# Altium integrated library TI Interface Serializer Deserializer.IntLib: 46 symbols (part 3 of 4)
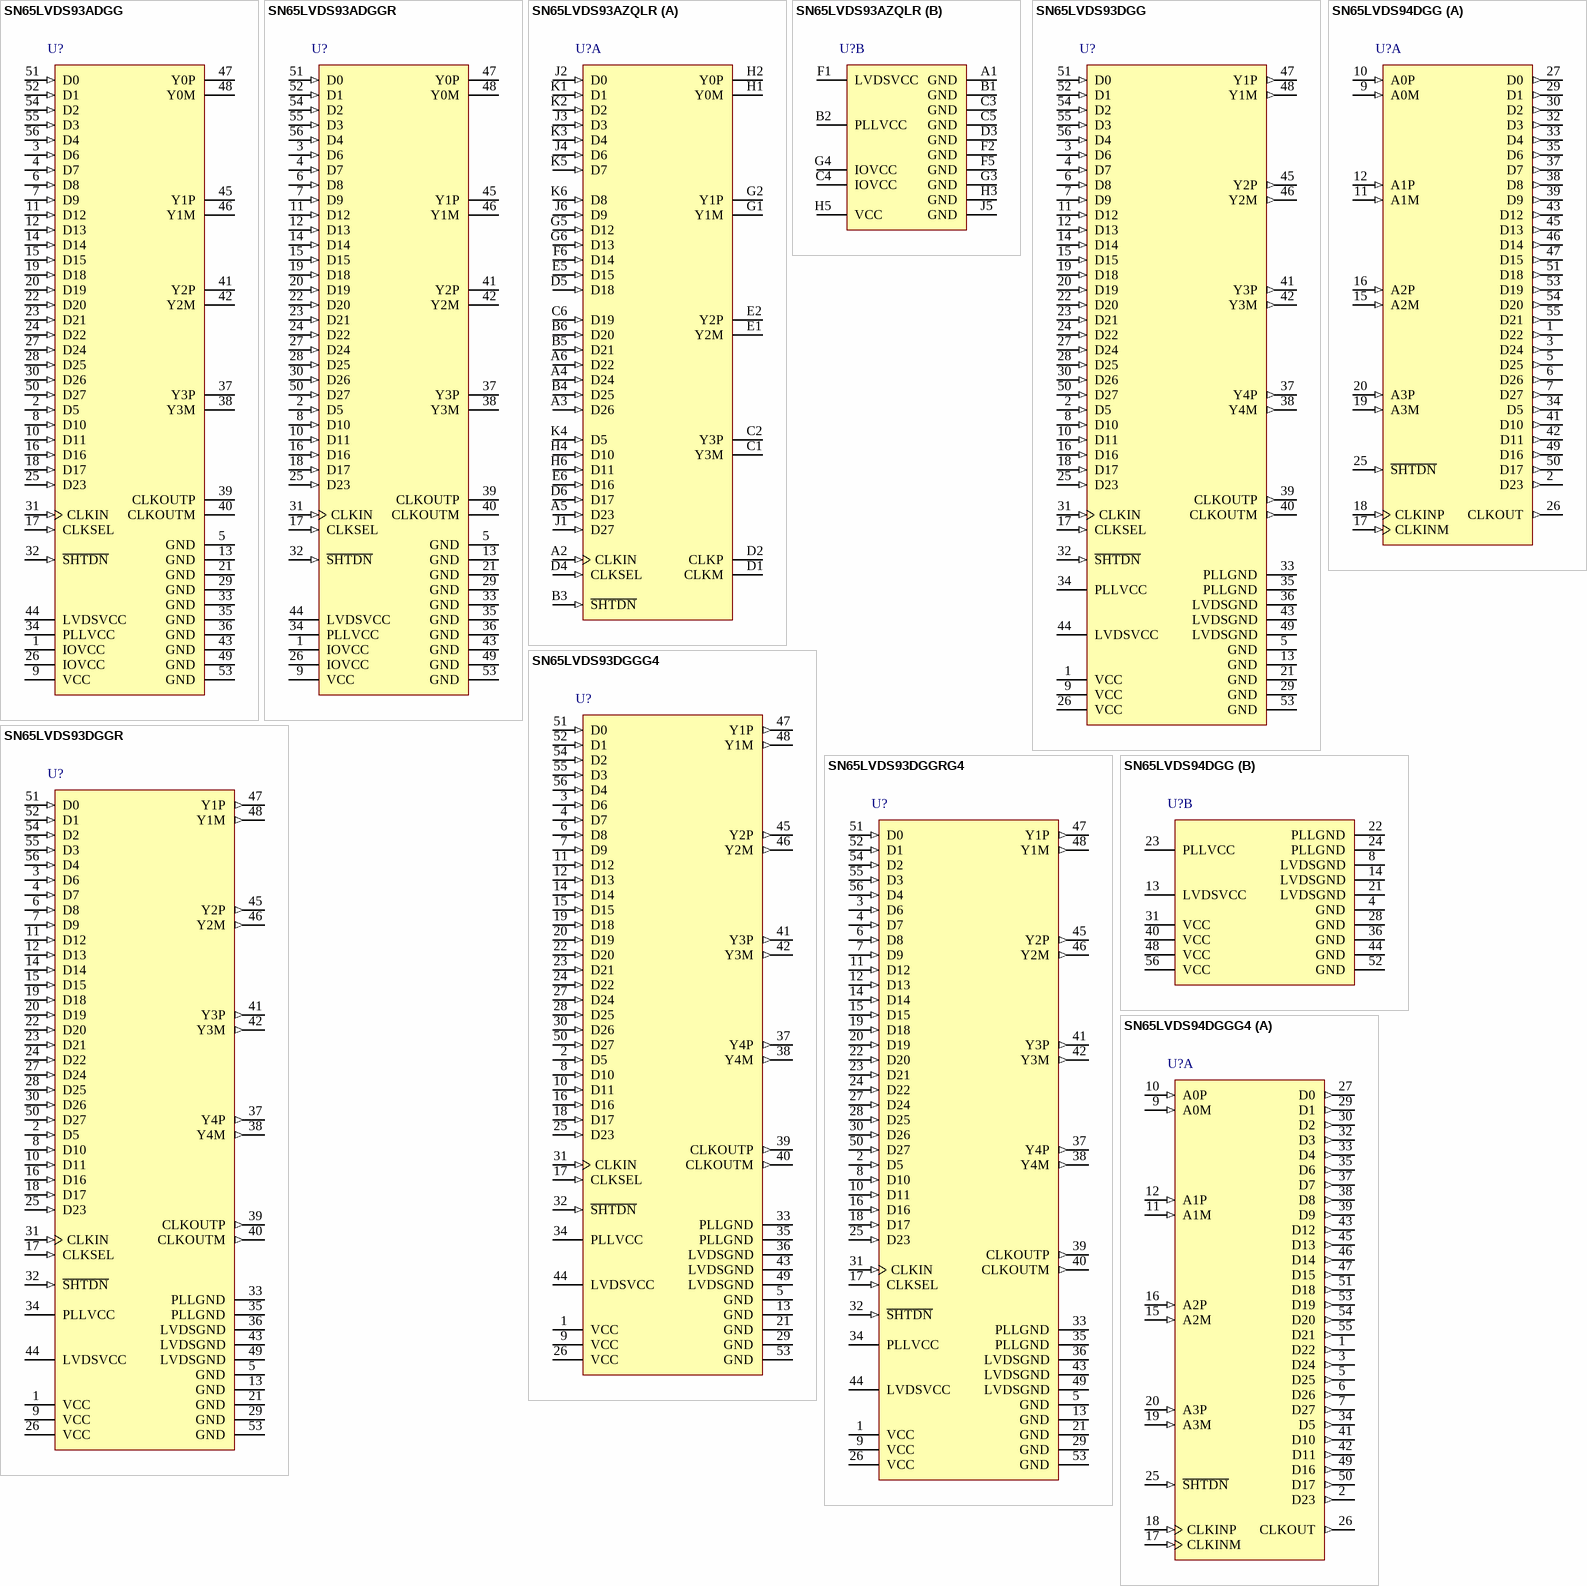
[diagram p6: symbols SN65LVDS93ADGG to SN65LVDS94DGGG4]

## SN65LVDS93DGGR
designator U?
Serdes (Serializer / Deserializer) Transmitter, 3.3 V, 227.5 MB/s Data Throughput, -40 to +85 degC, 56-pin TSSOP (DGG), Green (RoHS & no Sb/Br); Manufacturer: Texas Instruments; PartNumber: SN65LVDS93DGGR; Data Throughput(MB/s): 227.5; Driver (RL)(Ohms): 100; Driver tpd(ns): 14.2; ICC(mA): 120; Number of Parallel Inputs: 28; PLL Frequency(MHz): 20 - 65; SerDes: TRUE; Serial Data Transmitter Channels: 4; SubFamily: LVDS Serdes (<100 MHz); Supply Voltage(s)(V): 3.3; Type of Line Circuit: LVDS; DatasheetVersion: SLLS302G; PackageVersion: revF, Dec-1997; PackageReference: DGG56; PackageDescription: 56-Pin Plastic Small Outline 0.5 mm Pitch; Eco-Plan: Green (RoHS & no Sb/Br); Mounting Technology: Surface Mount; Code_JEDEC: MO-153; ComponentLink1Description: Datasheet; ComponentLink1URL: http://www.ti.com/general/docs/lit/getliterature.tsp?genericPartNumber=SN65LVDS93&fileType=pdf; ComponentLink2Description: URL Link1; ComponentLink2URL: SamplesURL:http://www.ti.com/product/sn65lvds93#samples
footprint DGG56_N (TSSOP, 56-Leads, Body 14x6.1mm, Pitch 0.5mm, IPC Medium Density)
footprint DGG56_L (TSSOP, 56-Leads, Body 14x6.1mm, Pitch 0.5mm, IPC High Density)
footprint DGG56_M (TSSOP, 56-Leads, Body 14x6.1mm, Pitch 0.5mm, IPC Low Density)
pins: 1 VCC (power), 2 D5 (in), 3 D6 (in), 4 D7 (in), 5 GND (power), 6 D8 (in), 7 D9 (in), 8 D10 (in), 9 VCC (power), 10 D11 (in), 11 D12 (in), 12 D13 (in), 13 GND (power), 14 D14 (in), 15 D15 (in), 16 D16 (in), 17 CLKSEL (in), 18 D17 (in), 19 D18 (in), 20 D19 (in), 21 GND (power), 22 D20 (in), 23 D21 (in), 24 D22 (in), 25 D23 (in), 26 VCC (power), 27 D24 (in), 28 D25 (in), 29 GND (power), 30 D26 (in), 31 CLKIN (in), 32 ~{SHTDN} (in), 33 PLLGND (power), 34 PLLVCC (power), 35 PLLGND (power), 36 LVDSGND (power), 37 Y4P (out), 38 Y4M (out), 39 CLKOUTP (out), 40 CLKOUTM (out), 41 Y3P (out), 42 Y3M (out), 43 LVDSGND (power), 44 LVDSVCC (power), 45 Y2P (out), 46 Y2M (out), 47 Y1P (out), 48 Y1M (out), 49 LVDSGND (power), 50 D27 (in), 51 D0 (in), 52 D1 (in), 53 GND (power), 54 D2 (in), 55 D3 (in), 56 D4 (in)

## SN65LVDS93DGGRG4
designator U?
Serdes (Serializer / Deserializer) Transmitter, 3.3 V, 227.5 MB/s Data Throughput, -40 to +85 degC, 56-pin TSSOP (DGG), Green (RoHS & no Sb/Br); Manufacturer: Texas Instruments; PartNumber: SN65LVDS93DGGRG4; Data Throughput(MB/s): 227.5; Driver (RL)(Ohms): 100; Driver tpd(ns): 14.2; ICC(mA): 120; Number of Parallel Inputs: 28; PLL Frequency(MHz): 20 - 65; SerDes: TRUE; Serial Data Transmitter Channels: 4; SubFamily: LVDS Serdes (<100 MHz); Supply Voltage(s)(V): 3.3; Type of Line Circuit: LVDS; DatasheetVersion: SLLS302G; PackageVersion: revF, Dec-1997; PackageReference: DGG56; PackageDescription: 56-Pin Plastic Small Outline 0.5 mm Pitch; Eco-Plan: Green (RoHS & no Sb/Br); Mounting Technology: Surface Mount; Code_JEDEC: MO-153; ComponentLink1Description: Datasheet; ComponentLink1URL: http://www.ti.com/general/docs/lit/getliterature.tsp?genericPartNumber=SN65LVDS93&fileType=pdf; ComponentLink2Description: URL Link1; ComponentLink2URL: SamplesURL:http://www.ti.com/product/sn65lvds93#samples
footprint DGG56_N (TSSOP, 56-Leads, Body 14x6.1mm, Pitch 0.5mm, IPC Medium Density)
footprint DGG56_L (TSSOP, 56-Leads, Body 14x6.1mm, Pitch 0.5mm, IPC High Density)
footprint DGG56_M (TSSOP, 56-Leads, Body 14x6.1mm, Pitch 0.5mm, IPC Low Density)
pins: 1 VCC (power), 2 D5 (in), 3 D6 (in), 4 D7 (in), 5 GND (power), 6 D8 (in), 7 D9 (in), 8 D10 (in), 9 VCC (power), 10 D11 (in), 11 D12 (in), 12 D13 (in), 13 GND (power), 14 D14 (in), 15 D15 (in), 16 D16 (in), 17 CLKSEL (in), 18 D17 (in), 19 D18 (in), 20 D19 (in), 21 GND (power), 22 D20 (in), 23 D21 (in), 24 D22 (in), 25 D23 (in), 26 VCC (power), 27 D24 (in), 28 D25 (in), 29 GND (power), 30 D26 (in), 31 CLKIN (in), 32 ~{SHTDN} (in), 33 PLLGND (power), 34 PLLVCC (power), 35 PLLGND (power), 36 LVDSGND (power), 37 Y4P (out), 38 Y4M (out), 39 CLKOUTP (out), 40 CLKOUTM (out), 41 Y3P (out), 42 Y3M (out), 43 LVDSGND (power), 44 LVDSVCC (power), 45 Y2P (out), 46 Y2M (out), 47 Y1P (out), 48 Y1M (out), 49 LVDSGND (power), 50 D27 (in), 51 D0 (in), 52 D1 (in), 53 GND (power), 54 D2 (in), 55 D3 (in), 56 D4 (in)

## SN65LVDS94DGG
designator U?
Serdes (Serializer / Deserializer) Receiver, 3.3 V, 227.5 MB/s Data Throughput, 4 Receiver Channels, 56-pin TSSOP (DGG), Green (RoHS & no Sb/Br); Manufacturer: Texas Instruments; PartNumber: SN65LVDS94DGG; Data Throughput(MB/s): 227.5; ICC(mA): 74; Number of Parallel Outputs: 28; PLL Frequency(MHz): 20 - 65; Receiver (Vth)(mV): +/-100; Receiver tpd(ns): 8.7; SerDes: TRUE; Serial Data Receiver Channels: 4; SubFamily: LVDS Serdes (<100 MHz); Supply Voltage(s)(V): 3.3; Type of Line Circuit: LVDS; DatasheetVersion: SLLS298F; PackageVersion: revF, Dec-1997; PackageReference: DGG56; PackageDescription: 56-Pin Plastic Small Outline 0.5 mm Pitch; Eco-Plan: Green (RoHS & no Sb/Br); Mounting Technology: Surface Mount; Code_JEDEC: MO-153; ComponentLink1Description: Datasheet; ComponentLink1URL: http://www.ti.com/general/docs/lit/getliterature.tsp?genericPartNumber=SN65LVDS94&fileType=pdf; ComponentLink2Description: URL Link1; ComponentLink2URL: SamplesURL:http://www.ti.com/product/sn65lvds94#samples
footprint DGG56_N (TSSOP, 56-Leads, Body 14x6.1mm, Pitch 0.5mm, IPC Medium Density)
footprint DGG56_L (TSSOP, 56-Leads, Body 14x6.1mm, Pitch 0.5mm, IPC High Density)
footprint DGG56_M (TSSOP, 56-Leads, Body 14x6.1mm, Pitch 0.5mm, IPC Low Density)
part A pins: 1 D22 (out), 2 D23 (out), 3 D24 (out), 5 D25 (out), 6 D26 (out), 7 D27 (out), 9 A0M (in), 10 A0P (in), 11 A1M (in), 12 A1P (in), 15 A2M (in), 16 A2P (in), 17 CLKINM (in), 18 CLKINP (in), 19 A3M (in), 20 A3P (in), 25 ~{SHTDN} (in), 26 CLKOUT (out), 27 D0 (out), 29 D1 (out), 30 D2 (out), 32 D3 (out), 33 D4 (out), 34 D5 (out), 35 D6 (out), 37 D7 (out), 38 D8 (out), 39 D9 (out), 41 D10 (out), 42 D11 (out), 43 D12 (out), 45 D13 (out), 46 D14 (out), 47 D15 (out), 49 D16 (out), 50 D17 (out), 51 D18 (out), 53 D19 (out), 54 D20 (out), 55 D21 (out)
part B pins: 4 GND (power), 8 LVDSGND (power), 13 LVDSVCC (power), 14 LVDSGND (power), 21 LVDSGND (power), 22 PLLGND (power), 23 PLLVCC (power), 24 PLLGND (power), 28 GND (power), 31 VCC (power), 36 GND (power), 40 VCC (power), 44 GND (power), 48 VCC (power), 52 GND (power), 56 VCC (power)

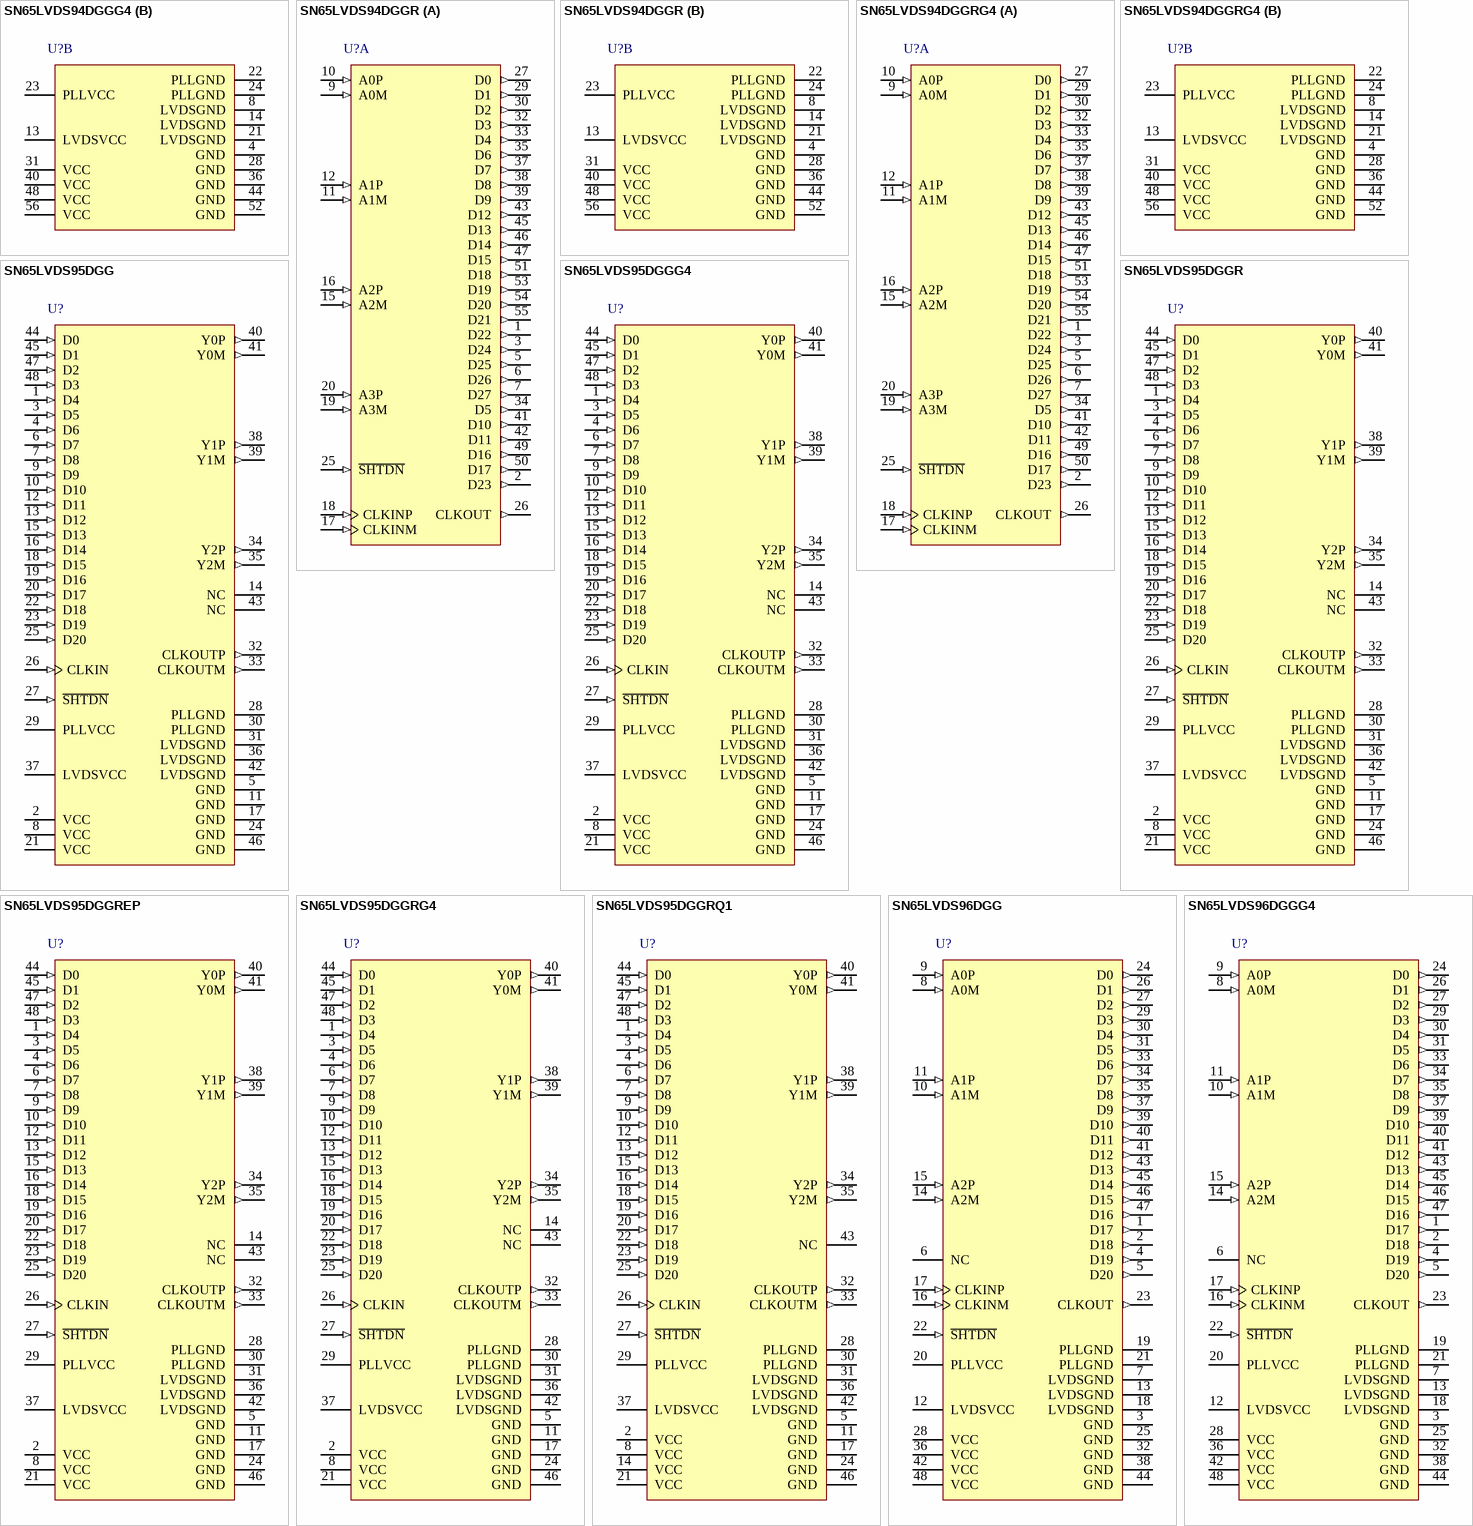
[diagram p2: symbols SN65LVDS94DGGG4 to SN65LVDS96DGGG4]

## SN65LVDS94DGGG4
designator U?
Serdes (Serializer / Deserializer) Receiver, 3.3 V, 227.5 MB/s Data Throughput, 4 Receiver Channels, 56-pin TSSOP (DGG), Green (RoHS & no Sb/Br); Manufacturer: Texas Instruments; PartNumber: SN65LVDS94DGGG4; Data Throughput(MB/s): 227.5; ICC(mA): 74; Number of Parallel Outputs: 28; PLL Frequency(MHz): 20 - 65; Receiver (Vth)(mV): +/-100; Receiver tpd(ns): 8.7; SerDes: TRUE; Serial Data Receiver Channels: 4; SubFamily: LVDS Serdes (<100 MHz); Supply Voltage(s)(V): 3.3; Type of Line Circuit: LVDS; DatasheetVersion: SLLS298F; PackageVersion: revF, Dec-1997; PackageReference: DGG56; PackageDescription: 56-Pin Plastic Small Outline 0.5 mm Pitch; Eco-Plan: Green (RoHS & no Sb/Br); Mounting Technology: Surface Mount; Code_JEDEC: MO-153; ComponentLink1Description: Datasheet; ComponentLink1URL: http://www.ti.com/general/docs/lit/getliterature.tsp?genericPartNumber=SN65LVDS94&fileType=pdf; ComponentLink2Description: URL Link1; ComponentLink2URL: SamplesURL:http://www.ti.com/product/sn65lvds94#samples
footprint DGG56_N (TSSOP, 56-Leads, Body 14x6.1mm, Pitch 0.5mm, IPC Medium Density)
footprint DGG56_L (TSSOP, 56-Leads, Body 14x6.1mm, Pitch 0.5mm, IPC High Density)
footprint DGG56_M (TSSOP, 56-Leads, Body 14x6.1mm, Pitch 0.5mm, IPC Low Density)
part A pins: 1 D22 (out), 2 D23 (out), 3 D24 (out), 5 D25 (out), 6 D26 (out), 7 D27 (out), 9 A0M (in), 10 A0P (in), 11 A1M (in), 12 A1P (in), 15 A2M (in), 16 A2P (in), 17 CLKINM (in), 18 CLKINP (in), 19 A3M (in), 20 A3P (in), 25 ~{SHTDN} (in), 26 CLKOUT (out), 27 D0 (out), 29 D1 (out), 30 D2 (out), 32 D3 (out), 33 D4 (out), 34 D5 (out), 35 D6 (out), 37 D7 (out), 38 D8 (out), 39 D9 (out), 41 D10 (out), 42 D11 (out), 43 D12 (out), 45 D13 (out), 46 D14 (out), 47 D15 (out), 49 D16 (out), 50 D17 (out), 51 D18 (out), 53 D19 (out), 54 D20 (out), 55 D21 (out)
part B pins: 4 GND (power), 8 LVDSGND (power), 13 LVDSVCC (power), 14 LVDSGND (power), 21 LVDSGND (power), 22 PLLGND (power), 23 PLLVCC (power), 24 PLLGND (power), 28 GND (power), 31 VCC (power), 36 GND (power), 40 VCC (power), 44 GND (power), 48 VCC (power), 52 GND (power), 56 VCC (power)

## SN65LVDS94DGGR
designator U?
Serdes (Serializer / Deserializer) Receiver, 3.3 V, 227.5 MB/s Data Throughput, 4 Receiver Channels, -40 to +85 degC, 56-pin TSSOP (DGG), Green (RoHS & no Sb/Br); Manufacturer: Texas Instruments; PartNumber: SN65LVDS94DGGR; Data Throughput(MB/s): 227.5; ICC(mA): 74; Number of Parallel Outputs: 28; PLL Frequency(MHz): 20 - 65; Receiver (Vth)(mV): +/-100; Receiver tpd(ns): 8.7; SerDes: TRUE; Serial Data Receiver Channels: 4; SubFamily: LVDS Serdes (<100 MHz); Supply Voltage(s)(V): 3.3; Type of Line Circuit: LVDS; DatasheetVersion: SLLS298F; PackageVersion: revF, Dec-1997; PackageReference: DGG56; PackageDescription: 56-Pin Plastic Small Outline 0.5 mm Pitch; Eco-Plan: Green (RoHS & no Sb/Br); Mounting Technology: Surface Mount; Code_JEDEC: MO-153; ComponentLink1Description: Datasheet; ComponentLink1URL: http://www.ti.com/general/docs/lit/getliterature.tsp?genericPartNumber=SN65LVDS94&fileType=pdf; ComponentLink2Description: URL Link1; ComponentLink2URL: SamplesURL:http://www.ti.com/product/sn65lvds94#samples
footprint DGG56_N (TSSOP, 56-Leads, Body 14x6.1mm, Pitch 0.5mm, IPC Medium Density)
footprint DGG56_L (TSSOP, 56-Leads, Body 14x6.1mm, Pitch 0.5mm, IPC High Density)
footprint DGG56_M (TSSOP, 56-Leads, Body 14x6.1mm, Pitch 0.5mm, IPC Low Density)
part A pins: 1 D22 (out), 2 D23 (out), 3 D24 (out), 5 D25 (out), 6 D26 (out), 7 D27 (out), 9 A0M (in), 10 A0P (in), 11 A1M (in), 12 A1P (in), 15 A2M (in), 16 A2P (in), 17 CLKINM (in), 18 CLKINP (in), 19 A3M (in), 20 A3P (in), 25 ~{SHTDN} (in), 26 CLKOUT (out), 27 D0 (out), 29 D1 (out), 30 D2 (out), 32 D3 (out), 33 D4 (out), 34 D5 (out), 35 D6 (out), 37 D7 (out), 38 D8 (out), 39 D9 (out), 41 D10 (out), 42 D11 (out), 43 D12 (out), 45 D13 (out), 46 D14 (out), 47 D15 (out), 49 D16 (out), 50 D17 (out), 51 D18 (out), 53 D19 (out), 54 D20 (out), 55 D21 (out)
part B pins: 4 GND (power), 8 LVDSGND (power), 13 LVDSVCC (power), 14 LVDSGND (power), 21 LVDSGND (power), 22 PLLGND (power), 23 PLLVCC (power), 24 PLLGND (power), 28 GND (power), 31 VCC (power), 36 GND (power), 40 VCC (power), 44 GND (power), 48 VCC (power), 52 GND (power), 56 VCC (power)

## SN65LVDS94DGGRG4
designator U?
Serdes (Serializer / Deserializer) Receiver, 3.3 V, 227.5 MB/s Data Throughput, 4 Receiver Channels, -40 to +85 degC, 56-pin TSSOP (DGG), Green (RoHS & no Sb/Br); Manufacturer: Texas Instruments; PartNumber: SN65LVDS94DGGRG4; Data Throughput(MB/s): 227.5; ICC(mA): 74; Number of Parallel Outputs: 28; PLL Frequency(MHz): 20 - 65; Receiver (Vth)(mV): +/-100; Receiver tpd(ns): 8.7; SerDes: TRUE; Serial Data Receiver Channels: 4; SubFamily: LVDS Serdes (<100 MHz); Supply Voltage(s)(V): 3.3; Type of Line Circuit: LVDS; DatasheetVersion: SLLS298F; PackageVersion: revF, Dec-1997; PackageReference: DGG56; PackageDescription: 56-Pin Plastic Small Outline 0.5 mm Pitch; Eco-Plan: Green (RoHS & no Sb/Br); Mounting Technology: Surface Mount; Code_JEDEC: MO-153; ComponentLink1Description: Datasheet; ComponentLink1URL: http://www.ti.com/general/docs/lit/getliterature.tsp?genericPartNumber=SN65LVDS94&fileType=pdf; ComponentLink2Description: URL Link1; ComponentLink2URL: SamplesURL:http://www.ti.com/product/sn65lvds94#samples
footprint DGG56_N (TSSOP, 56-Leads, Body 14x6.1mm, Pitch 0.5mm, IPC Medium Density)
footprint DGG56_L (TSSOP, 56-Leads, Body 14x6.1mm, Pitch 0.5mm, IPC High Density)
footprint DGG56_M (TSSOP, 56-Leads, Body 14x6.1mm, Pitch 0.5mm, IPC Low Density)
part A pins: 1 D22 (out), 2 D23 (out), 3 D24 (out), 5 D25 (out), 6 D26 (out), 7 D27 (out), 9 A0M (in), 10 A0P (in), 11 A1M (in), 12 A1P (in), 15 A2M (in), 16 A2P (in), 17 CLKINM (in), 18 CLKINP (in), 19 A3M (in), 20 A3P (in), 25 ~{SHTDN} (in), 26 CLKOUT (out), 27 D0 (out), 29 D1 (out), 30 D2 (out), 32 D3 (out), 33 D4 (out), 34 D5 (out), 35 D6 (out), 37 D7 (out), 38 D8 (out), 39 D9 (out), 41 D10 (out), 42 D11 (out), 43 D12 (out), 45 D13 (out), 46 D14 (out), 47 D15 (out), 49 D16 (out), 50 D17 (out), 51 D18 (out), 53 D19 (out), 54 D20 (out), 55 D21 (out)
part B pins: 4 GND (power), 8 LVDSGND (power), 13 LVDSVCC (power), 14 LVDSGND (power), 21 LVDSGND (power), 22 PLLGND (power), 23 PLLVCC (power), 24 PLLGND (power), 28 GND (power), 31 VCC (power), 36 GND (power), 40 VCC (power), 44 GND (power), 48 VCC (power), 52 GND (power), 56 VCC (power)

## SN65LVDS95DGG
designator U?
Serdes (Serializer / Deserializer) Transmitter, 3.3 V, 170.625 MB/s Data Throughput, -40 to +85 degC, 48-pin TSSOP (DGG), Green (RoHS & no Sb/Br); Manufacturer: Texas Instruments; PartNumber: SN65LVDS95DGG; Driver (RL)(Ohms): 90; Driver tpd(ns): 14.2; ICC(mA): 110; Number of Parallel Inputs: 21; PLL Frequency(MHz): 20 - 68; SerDes: TRUE; Serial Data Transmitter Channels: 3; SubFamily: LVDS Serdes (<100 MHz); Supply Voltage(s)(V): 3.3; Type of Line Circuit: LVDS; DatasheetVersion: SLLS297J; PackageVersion: revF, Dec-1997; PackageReference: DGG48; PackageDescription: 48-Pin Plastic Thin Shrink Small Outline Package 0.5 mm Pitch; Data Throughput(MB/s): 170.625; Eco-Plan: Green (RoHS & no Sb/Br); Mounting Technology: Surface Mount; Code_JEDEC: MO-153; ComponentLink1Description: Datasheet; ComponentLink1URL: http://www.ti.com/general/docs/lit/getliterature.tsp?genericPartNumber=SN65LVDS95&fileType=pdf; ComponentLink2Description: URL Link1; ComponentLink2URL: SamplesURL:http://www.ti.com/product/sn65lvds95#samples
footprint DGG48_N (TSSOP, 48-Leads, Body 12.5x6.1mm, Pitch 0.5mm, IPC Medium Density)
footprint DGG48_L (TSSOP, 48-Leads, Body 12.5x6.1mm, Pitch 0.5mm, IPC High Density)
footprint DGG48_M (TSSOP, 48-Leads, Body 12.5x6.1mm, Pitch 0.5mm, IPC Low Density)
pins: 1 D4 (in), 2 VCC (power), 3 D5 (in), 4 D6 (in), 5 GND (power), 6 D7 (in), 7 D8 (in), 8 VCC (power), 9 D9 (in), 10 D10 (in), 11 GND (power), 12 D11 (in), 13 D12 (in), 14 NC, 15 D13 (in), 16 D14 (in), 17 GND (power), 18 D15 (in), 19 D16 (in), 20 D17 (in), 21 VCC (power), 22 D18 (in), 23 D19 (in), 24 GND (power), 25 D20 (in), 26 CLKIN (in), 27 ~{SHTDN} (in), 28 PLLGND (power), 29 PLLVCC (power), 30 PLLGND (power), 31 LVDSGND (power), 32 CLKOUTP (out), 33 CLKOUTM (out), 34 Y2P (out), 35 Y2M (out), 36 LVDSGND (power), 37 LVDSVCC (power), 38 Y1P (out), 39 Y1M (out), 40 Y0P (out), 41 Y0M (out), 42 LVDSGND (power), 43 NC, 44 D0 (in), 45 D1 (in), 46 GND (power), 47 D2 (in), 48 D3 (in)

## SN65LVDS95DGGG4
designator U?
Serdes (Serializer / Deserializer) Transmitter, 3.3 V, 170.625 MB/s Data Throughput, -40 to +85 degC, 48-pin TSSOP (DGG), Green (RoHS & no Sb/Br); Manufacturer: Texas Instruments; PartNumber: SN65LVDS95DGGG4; Driver (RL)(Ohms): 90; Driver tpd(ns): 14.2; ICC(mA): 110; Number of Parallel Inputs: 21; PLL Frequency(MHz): 20 - 68; SerDes: TRUE; Serial Data Transmitter Channels: 3; SubFamily: LVDS Serdes (<100 MHz); Supply Voltage(s)(V): 3.3; Type of Line Circuit: LVDS; DatasheetVersion: SLLS297J; PackageVersion: revF, Dec-1997; PackageReference: DGG48; PackageDescription: 48-Pin Plastic Thin Shrink Small Outline Package 0.5 mm Pitch; Data Throughput(MB/s): 170.625; Eco-Plan: Green (RoHS & no Sb/Br); Mounting Technology: Surface Mount; Code_JEDEC: MO-153; ComponentLink1Description: Datasheet; ComponentLink1URL: http://www.ti.com/general/docs/lit/getliterature.tsp?genericPartNumber=SN65LVDS95&fileType=pdf; ComponentLink2Description: URL Link1; ComponentLink2URL: SamplesURL:http://www.ti.com/product/sn65lvds95#samples
footprint DGG48_N (TSSOP, 48-Leads, Body 12.5x6.1mm, Pitch 0.5mm, IPC Medium Density)
footprint DGG48_L (TSSOP, 48-Leads, Body 12.5x6.1mm, Pitch 0.5mm, IPC High Density)
footprint DGG48_M (TSSOP, 48-Leads, Body 12.5x6.1mm, Pitch 0.5mm, IPC Low Density)
pins: 1 D4 (in), 2 VCC (power), 3 D5 (in), 4 D6 (in), 5 GND (power), 6 D7 (in), 7 D8 (in), 8 VCC (power), 9 D9 (in), 10 D10 (in), 11 GND (power), 12 D11 (in), 13 D12 (in), 14 NC, 15 D13 (in), 16 D14 (in), 17 GND (power), 18 D15 (in), 19 D16 (in), 20 D17 (in), 21 VCC (power), 22 D18 (in), 23 D19 (in), 24 GND (power), 25 D20 (in), 26 CLKIN (in), 27 ~{SHTDN} (in), 28 PLLGND (power), 29 PLLVCC (power), 30 PLLGND (power), 31 LVDSGND (power), 32 CLKOUTP (out), 33 CLKOUTM (out), 34 Y2P (out), 35 Y2M (out), 36 LVDSGND (power), 37 LVDSVCC (power), 38 Y1P (out), 39 Y1M (out), 40 Y0P (out), 41 Y0M (out), 42 LVDSGND (power), 43 NC, 44 D0 (in), 45 D1 (in), 46 GND (power), 47 D2 (in), 48 D3 (in)

## SN65LVDS95DGGR
designator U?
Serdes (Serializer / Deserializer) Transmitter, 3.3 V, 170.625 MB/s Data Throughput, -40 to +85 degC, 48-pin TSSOP (DGG), Green (RoHS & no Sb/Br); Manufacturer: Texas Instruments; PartNumber: SN65LVDS95DGGR; Driver (RL)(Ohms): 90; Driver tpd(ns): 14.2; ICC(mA): 110; Number of Parallel Inputs: 21; PLL Frequency(MHz): 20 - 68; SerDes: TRUE; Serial Data Transmitter Channels: 3; SubFamily: LVDS Serdes (<100 MHz); Supply Voltage(s)(V): 3.3; Type of Line Circuit: LVDS; DatasheetVersion: SLLS297J; PackageVersion: revF, Dec-1997; PackageReference: DGG48; PackageDescription: 48-Pin Plastic Thin Shrink Small Outline Package 0.5 mm Pitch; Data Throughput(MB/s): 170.625; Eco-Plan: Green (RoHS & no Sb/Br); Mounting Technology: Surface Mount; Code_JEDEC: MO-153; ComponentLink1Description: Datasheet; ComponentLink1URL: http://www.ti.com/general/docs/lit/getliterature.tsp?genericPartNumber=SN65LVDS95&fileType=pdf; ComponentLink2Description: URL Link1; ComponentLink2URL: SamplesURL:http://www.ti.com/product/sn65lvds95#samples
footprint DGG48_N (TSSOP, 48-Leads, Body 12.5x6.1mm, Pitch 0.5mm, IPC Medium Density)
footprint DGG48_L (TSSOP, 48-Leads, Body 12.5x6.1mm, Pitch 0.5mm, IPC High Density)
footprint DGG48_M (TSSOP, 48-Leads, Body 12.5x6.1mm, Pitch 0.5mm, IPC Low Density)
pins: 1 D4 (in), 2 VCC (power), 3 D5 (in), 4 D6 (in), 5 GND (power), 6 D7 (in), 7 D8 (in), 8 VCC (power), 9 D9 (in), 10 D10 (in), 11 GND (power), 12 D11 (in), 13 D12 (in), 14 NC, 15 D13 (in), 16 D14 (in), 17 GND (power), 18 D15 (in), 19 D16 (in), 20 D17 (in), 21 VCC (power), 22 D18 (in), 23 D19 (in), 24 GND (power), 25 D20 (in), 26 CLKIN (in), 27 ~{SHTDN} (in), 28 PLLGND (power), 29 PLLVCC (power), 30 PLLGND (power), 31 LVDSGND (power), 32 CLKOUTP (out), 33 CLKOUTM (out), 34 Y2P (out), 35 Y2M (out), 36 LVDSGND (power), 37 LVDSVCC (power), 38 Y1P (out), 39 Y1M (out), 40 Y0P (out), 41 Y0M (out), 42 LVDSGND (power), 43 NC, 44 D0 (in), 45 D1 (in), 46 GND (power), 47 D2 (in), 48 D3 (in)

## SN65LVDS95DGGREP
designator U?
170.625 Mbps Enhanced Product LVDS Serdes Transmitter, 3.3 V, 3 Transmitter Channels, -40 to +85 degC, 48-pin TSSOP (DGG), Green (RoHS & no Sb/Br); Manufacturer: Texas Instruments; PartNumber: SN65LVDS95DGGREP; ICC(mA): 110; Number of Parallel Inputs: 21; PLL Frequency(MHz): 20 - 68; SerDes: TRUE; Serial Data Transmitter Channels: 3; SubFamily: LVDS Serdes (<100 MHz); Supply Voltage(s)(V): 3.3; DatasheetVersion: SGLS206A; PackageVersion: revF, Dec-1997; PackageReference: DGG48; PackageDescription: 48-Pin Plastic Thin Shrink Small Outline Package 0.5 mm Pitch; Data Throughput(MB/s): 170.625; Eco-Plan: Green (RoHS & no Sb/Br); Type of Line Circuit: LVDS; Mounting Technology: Surface Mount; Code_JEDEC: MO-153; ComponentLink1Description: Datasheet; ComponentLink1URL: http://www.ti.com/general/docs/lit/getliterature.tsp?genericPartNumber=SN65LVDS95-EP&fileType=pdf; ComponentLink2Description: URL Link1; ComponentLink2URL: SamplesURL:http://www.ti.com/product/sn65lvds95-ep#samples
footprint DGG48_N (TSSOP, 48-Leads, Body 12.5x6.1mm, Pitch 0.5mm, IPC Medium Density)
footprint DGG48_L (TSSOP, 48-Leads, Body 12.5x6.1mm, Pitch 0.5mm, IPC High Density)
footprint DGG48_M (TSSOP, 48-Leads, Body 12.5x6.1mm, Pitch 0.5mm, IPC Low Density)
pins: 1 D4 (in), 2 VCC (power), 3 D5 (in), 4 D6 (in), 5 GND (power), 6 D7 (in), 7 D8 (in), 8 VCC (power), 9 D9 (in), 10 D10 (in), 11 GND (power), 12 D11 (in), 13 D12 (in), 14 NC, 15 D13 (in), 16 D14 (in), 17 GND (power), 18 D15 (in), 19 D16 (in), 20 D17 (in), 21 VCC (power), 22 D18 (in), 23 D19 (in), 24 GND (power), 25 D20 (in), 26 CLKIN (in), 27 ~{SHTDN} (in), 28 PLLGND (power), 29 PLLVCC (power), 30 PLLGND (power), 31 LVDSGND (power), 32 CLKOUTP (out), 33 CLKOUTM (out), 34 Y2P (out), 35 Y2M (out), 36 LVDSGND (power), 37 LVDSVCC (power), 38 Y1P (out), 39 Y1M (out), 40 Y0P (out), 41 Y0M (out), 42 LVDSGND (power), 43 NC, 44 D0 (in), 45 D1 (in), 46 GND (power), 47 D2 (in), 48 D3 (in)

## SN65LVDS95DGGRG4
designator U?
Serdes (Serializer / Deserializer) Transmitter, 3.3 V, 170.625 MB/s Data Throughput, -40 to +85 degC, 48-pin TSSOP (DGG), Green (RoHS & no Sb/Br); Manufacturer: Texas Instruments; PartNumber: SN65LVDS95DGGRG4; Driver (RL)(Ohms): 90; Driver tpd(ns): 14.2; ICC(mA): 110; Number of Parallel Inputs: 21; PLL Frequency(MHz): 20 - 68; SerDes: TRUE; Serial Data Transmitter Channels: 3; SubFamily: LVDS Serdes (<100 MHz); Supply Voltage(s)(V): 3.3; Type of Line Circuit: LVDS; DatasheetVersion: SLLS297J; PackageVersion: revF, Dec-1997; PackageReference: DGG48; PackageDescription: 48-Pin Plastic Thin Shrink Small Outline Package 0.5 mm Pitch; Data Throughput(MB/s): 170.625; Eco-Plan: Green (RoHS & no Sb/Br); Mounting Technology: Surface Mount; Code_JEDEC: MO-153; ComponentLink1Description: Datasheet; ComponentLink1URL: http://www.ti.com/general/docs/lit/getliterature.tsp?genericPartNumber=SN65LVDS95&fileType=pdf; ComponentLink2Description: URL Link1; ComponentLink2URL: SamplesURL:http://www.ti.com/product/sn65lvds95#samples
footprint DGG48_N (TSSOP, 48-Leads, Body 12.5x6.1mm, Pitch 0.5mm, IPC Medium Density)
footprint DGG48_L (TSSOP, 48-Leads, Body 12.5x6.1mm, Pitch 0.5mm, IPC High Density)
footprint DGG48_M (TSSOP, 48-Leads, Body 12.5x6.1mm, Pitch 0.5mm, IPC Low Density)
pins: 1 D4 (in), 2 VCC (power), 3 D5 (in), 4 D6 (in), 5 GND (power), 6 D7 (in), 7 D8 (in), 8 VCC (power), 9 D9 (in), 10 D10 (in), 11 GND (power), 12 D11 (in), 13 D12 (in), 14 NC, 15 D13 (in), 16 D14 (in), 17 GND (power), 18 D15 (in), 19 D16 (in), 20 D17 (in), 21 VCC (power), 22 D18 (in), 23 D19 (in), 24 GND (power), 25 D20 (in), 26 CLKIN (in), 27 ~{SHTDN} (in), 28 PLLGND (power), 29 PLLVCC (power), 30 PLLGND (power), 31 LVDSGND (power), 32 CLKOUTP (out), 33 CLKOUTM (out), 34 Y2P (out), 35 Y2M (out), 36 LVDSGND (power), 37 LVDSVCC (power), 38 Y1P (out), 39 Y1M (out), 40 Y0P (out), 41 Y0M (out), 42 LVDSGND (power), 43 NC, 44 D0 (in), 45 D1 (in), 46 GND (power), 47 D2 (in), 48 D3 (in)

## SN65LVDS95DGGRQ1
designator U?
Automotive Catalog LVDS SERDES Transmitter, 3.3 V, 170.625 MB/s Data Throughput, -40 to +85 degC, 48-pin TSSOP (DGG), Green (RoHS & no Sb/Br); Manufacturer: Texas Instruments; PartNumber: SN65LVDS95DGGRQ1; ICC(mA): 110; Number of Parallel Inputs: 21; PLL Frequency(MHz): 20 - 68; SerDes: TRUE; Serial Data Transmitter Channels: 3; SubFamily: LVDS Serdes (<100 MHz); Supply Voltage(s)(V): 3.3; DatasheetVersion: SGLS207A; PackageVersion: revF, Dec-1997; PackageReference: DGG48; PackageDescription: 48-Pin Plastic Thin Shrink Small Outline Package 0.5 mm Pitch; Data Throughput(MB/s): 170.625; Eco-Plan: Green (RoHS & no Sb/Br); Type of Line Circuit: LVDS; Mounting Technology: Surface Mount; Code_JEDEC: MO-153; ComponentLink1Description: Datasheet; ComponentLink1URL: http://www.ti.com/general/docs/lit/getliterature.tsp?genericPartNumber=SN65LVDS95-Q1&fileType=pdf; ComponentLink2Description: URL Link1; ComponentLink2URL: SamplesURL:http://www.ti.com/product/sn65lvds95-q1#samples
footprint DGG48_N (TSSOP, 48-Leads, Body 12.5x6.1mm, Pitch 0.5mm, IPC Medium Density)
footprint DGG48_L (TSSOP, 48-Leads, Body 12.5x6.1mm, Pitch 0.5mm, IPC High Density)
footprint DGG48_M (TSSOP, 48-Leads, Body 12.5x6.1mm, Pitch 0.5mm, IPC Low Density)
pins: 1 D4 (in), 2 VCC (power), 3 D5 (in), 4 D6 (in), 5 GND (power), 6 D7 (in), 7 D8 (in), 8 VCC (power), 9 D9 (in), 10 D10 (in), 11 GND (power), 12 D11 (in), 13 D12 (in), 14 VCC (power), 15 D13 (in), 16 D14 (in), 17 GND (power), 18 D15 (in), 19 D16 (in), 20 D17 (in), 21 VCC (power), 22 D18 (in), 23 D19 (in), 24 GND (power), 25 D20 (in), 26 CLKIN (in), 27 ~{SHTDN} (in), 28 PLLGND (power), 29 PLLVCC (power), 30 PLLGND (power), 31 LVDSGND (power), 32 CLKOUTP (out), 33 CLKOUTM (out), 34 Y2P (out), 35 Y2M (out), 36 LVDSGND (power), 37 LVDSVCC (power), 38 Y1P (out), 39 Y1M (out), 40 Y0P (out), 41 Y0M (out), 42 LVDSGND (power), 43 NC, 44 D0 (in), 45 D1 (in), 46 GND (power), 47 D2 (in), 48 D3 (in)

## SN65LVDS96DGG
designator U?
Serdes (Serializer / Deserializer) Receiver, 3.3 V, 170.625 MB/s Data Throughput, 3 Receiver Channels, 48-pin TSSOP (DGG), Green (RoHS & no Sb/Br); Manufacturer: Texas Instruments; PartNumber: SN65LVDS96DGG; ICC(mA): 94; Number of Parallel Outputs: 21; PLL Frequency(MHz): 20 - 68; Receiver (Vth)(mV): +/-100; Receiver tpd(ns): 8.7; SerDes: TRUE; Serial Data Receiver Channels: 3; SubFamily: LVDS Serdes (<100 MHz); Supply Voltage(s)(V): 3.3; Type of Line Circuit: LVDS; DatasheetVersion: SLLS296H; PackageVersion: revF, Dec-1997; PackageReference: DGG48; PackageDescription: 48-Pin Plastic Thin Shrink Small Outline Package 0.5 mm Pitch; Data Throughput(MB/s): 170.625; Eco-Plan: Green (RoHS & no Sb/Br); Mounting Technology: Surface Mount; Code_JEDEC: MO-153; ComponentLink1Description: Datasheet; ComponentLink1URL: http://www.ti.com/general/docs/lit/getliterature.tsp?genericPartNumber=SN65LVDS96&fileType=pdf; ComponentLink2Description: URL Link1; ComponentLink2URL: SamplesURL:http://www.ti.com/product/sn65lvds96#samples
footprint DGG48_N (TSSOP, 48-Leads, Body 12.5x6.1mm, Pitch 0.5mm, IPC Medium Density)
footprint DGG48_L (TSSOP, 48-Leads, Body 12.5x6.1mm, Pitch 0.5mm, IPC High Density)
footprint DGG48_M (TSSOP, 48-Leads, Body 12.5x6.1mm, Pitch 0.5mm, IPC Low Density)
pins: 1 D17 (out), 2 D18 (out), 3 GND (power), 4 D19 (out), 5 D20 (out), 6 NC, 7 LVDSGND (power), 8 A0M (in), 9 A0P (in), 10 A1M (in), 11 A1P (in), 12 LVDSVCC (power), 13 LVDSGND (power), 14 A2M (in), 15 A2P (in), 16 CLKINM (in), 17 CLKINP (in), 18 LVDSGND (power), 19 PLLGND (power), 20 PLLVCC (power), 21 PLLGND (power), 22 ~{SHTDN} (in), 23 CLKOUT (out), 24 D0 (out), 25 GND (power), 26 D1 (out), 27 D2 (out), 28 VCC (power), 29 D3 (out), 30 D4 (out), 31 D5 (out), 32 GND (power), 33 D6 (out), 34 D7 (out), 35 D8 (out), 36 VCC (power), 37 D9 (out), 38 GND (power), 39 D10 (out), 40 D11 (out), 41 D12 (out), 42 VCC (power), 43 D13 (out), 44 GND (power), 45 D14 (out), 46 D15 (out), 47 D16 (out), 48 VCC (power)

## SN65LVDS96DGGG4
designator U?
Serdes (Serializer / Deserializer) Receiver, 3.3 V, 170.625 MB/s Data Throughput, 3 Receiver Channels, 48-pin TSSOP (DGG), Green (RoHS & no Sb/Br); Manufacturer: Texas Instruments; PartNumber: SN65LVDS96DGGG4; ICC(mA): 94; Number of Parallel Outputs: 21; PLL Frequency(MHz): 20 - 68; Receiver (Vth)(mV): +/-100; Receiver tpd(ns): 8.7; SerDes: TRUE; Serial Data Receiver Channels: 3; SubFamily: LVDS Serdes (<100 MHz); Supply Voltage(s)(V): 3.3; Type of Line Circuit: LVDS; DatasheetVersion: SLLS296H; PackageVersion: revF, Dec-1997; PackageReference: DGG48; PackageDescription: 48-Pin Plastic Thin Shrink Small Outline Package 0.5 mm Pitch; Data Throughput(MB/s): 170.625; Eco-Plan: Green (RoHS & no Sb/Br); Mounting Technology: Surface Mount; Code_JEDEC: MO-153; ComponentLink1Description: Datasheet; ComponentLink1URL: http://www.ti.com/general/docs/lit/getliterature.tsp?genericPartNumber=SN65LVDS96&fileType=pdf; ComponentLink2Description: URL Link1; ComponentLink2URL: SamplesURL:http://www.ti.com/product/sn65lvds96#samples
footprint DGG48_N (TSSOP, 48-Leads, Body 12.5x6.1mm, Pitch 0.5mm, IPC Medium Density)
footprint DGG48_L (TSSOP, 48-Leads, Body 12.5x6.1mm, Pitch 0.5mm, IPC High Density)
footprint DGG48_M (TSSOP, 48-Leads, Body 12.5x6.1mm, Pitch 0.5mm, IPC Low Density)
pins: 1 D17 (out), 2 D18 (out), 3 GND (power), 4 D19 (out), 5 D20 (out), 6 NC, 7 LVDSGND (power), 8 A0M (in), 9 A0P (in), 10 A1M (in), 11 A1P (in), 12 LVDSVCC (power), 13 LVDSGND (power), 14 A2M (in), 15 A2P (in), 16 CLKINM (in), 17 CLKINP (in), 18 LVDSGND (power), 19 PLLGND (power), 20 PLLVCC (power), 21 PLLGND (power), 22 ~{SHTDN} (in), 23 CLKOUT (out), 24 D0 (out), 25 GND (power), 26 D1 (out), 27 D2 (out), 28 VCC (power), 29 D3 (out), 30 D4 (out), 31 D5 (out), 32 GND (power), 33 D6 (out), 34 D7 (out), 35 D8 (out), 36 VCC (power), 37 D9 (out), 38 GND (power), 39 D10 (out), 40 D11 (out), 41 D12 (out), 42 VCC (power), 43 D13 (out), 44 GND (power), 45 D14 (out), 46 D15 (out), 47 D16 (out), 48 VCC (power)

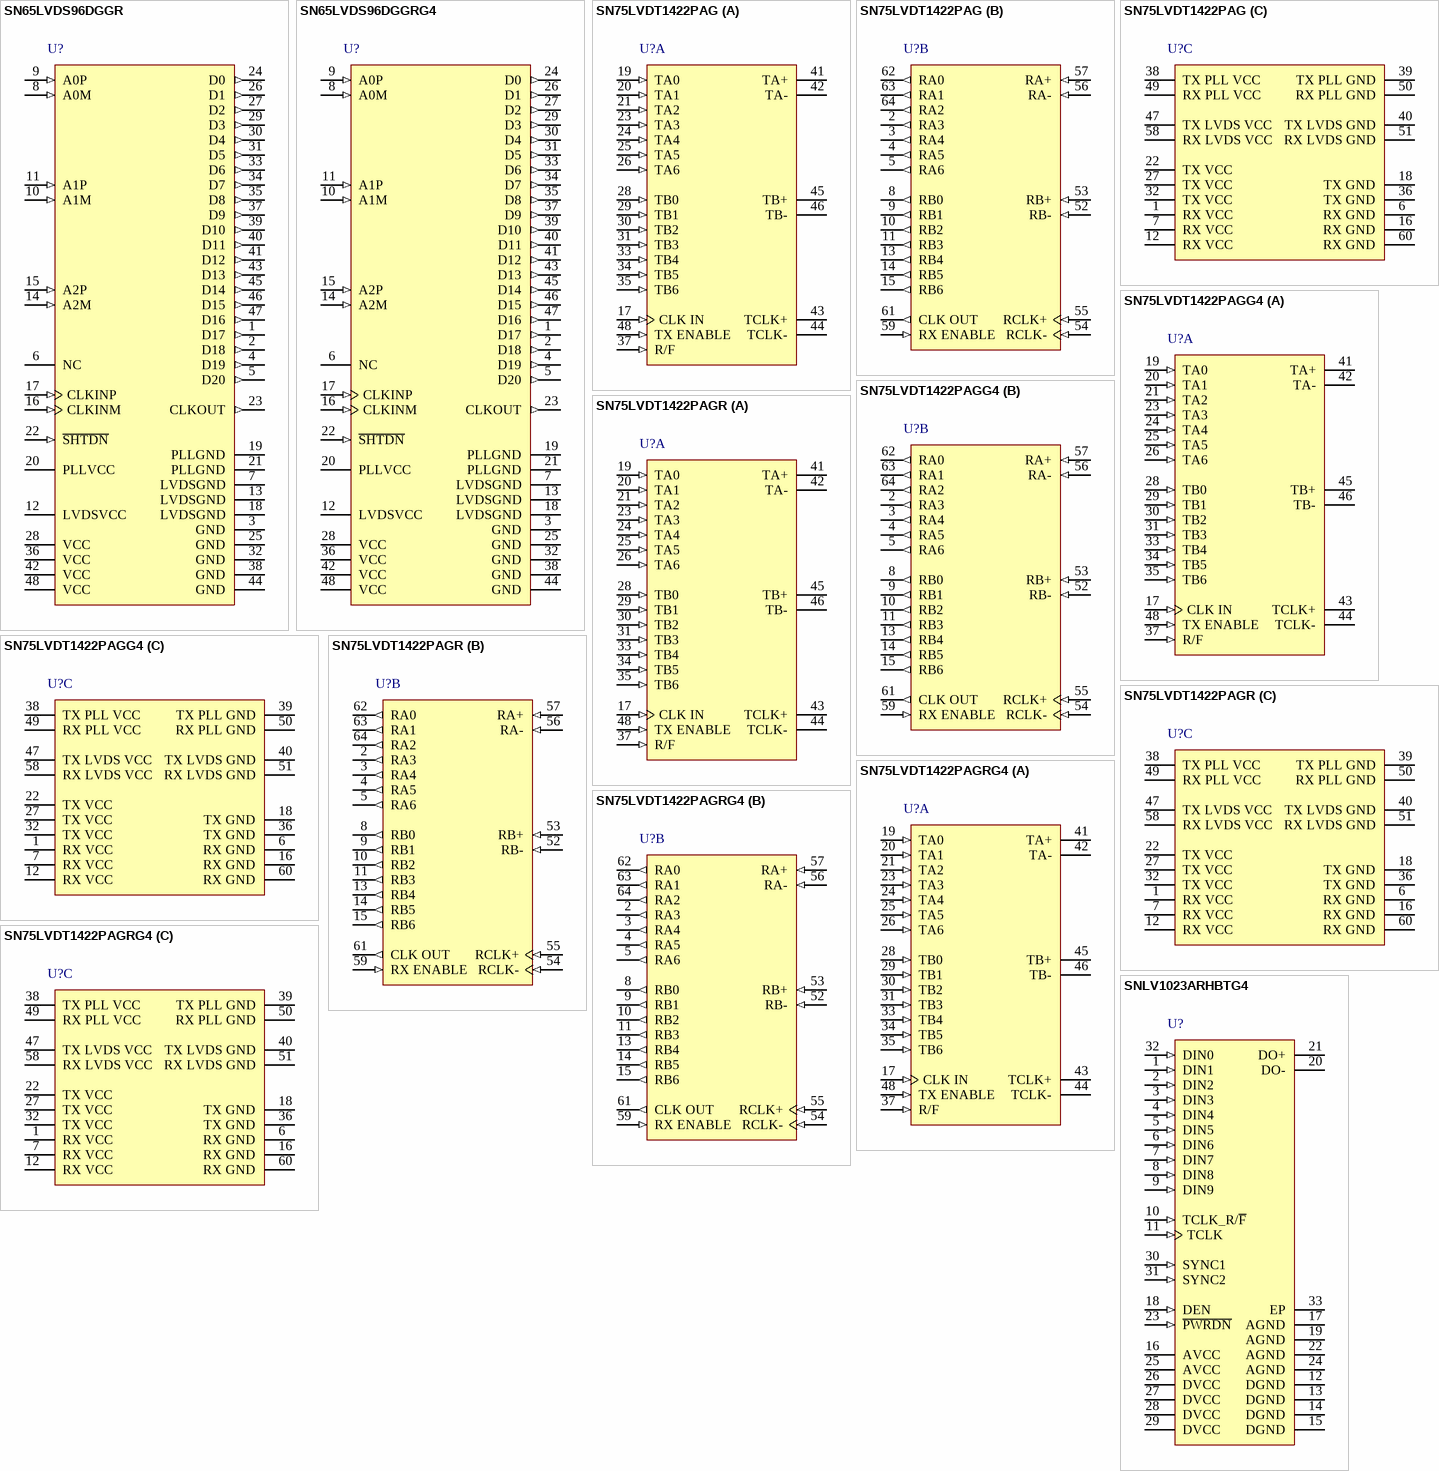
[diagram p3: symbols SN65LVDS96DGGR to SNLV1023ARHBTG4]

## SN65LVDS96DGGR
designator U?
Serdes (Serializer / Deserializer) Receiver, 3.3 V, 170.625 MB/s Data Throughput, 3 Receiver Channels, -40 to +85 degC, 48-pin TSSOP (DGG), Green (RoHS & no Sb/Br); Manufacturer: Texas Instruments; PartNumber: SN65LVDS96DGGR; ICC(mA): 94; Number of Parallel Outputs: 21; PLL Frequency(MHz): 20 - 68; Receiver (Vth)(mV): +/-100; Receiver tpd(ns): 8.7; SerDes: TRUE; Serial Data Receiver Channels: 3; SubFamily: LVDS Serdes (<100 MHz); Supply Voltage(s)(V): 3.3; Type of Line Circuit: LVDS; DatasheetVersion: SLLS296H; PackageVersion: revF, Dec-1997; PackageReference: DGG48; PackageDescription: 48-Pin Plastic Thin Shrink Small Outline Package 0.5 mm Pitch; Data Throughput(MB/s): 170.625; Eco-Plan: Green (RoHS & no Sb/Br); Mounting Technology: Surface Mount; Code_JEDEC: MO-153; ComponentLink1Description: Datasheet; ComponentLink1URL: http://www.ti.com/general/docs/lit/getliterature.tsp?genericPartNumber=SN65LVDS96&fileType=pdf; ComponentLink2Description: URL Link1; ComponentLink2URL: SamplesURL:http://www.ti.com/product/sn65lvds96#samples
footprint DGG48_N (TSSOP, 48-Leads, Body 12.5x6.1mm, Pitch 0.5mm, IPC Medium Density)
footprint DGG48_L (TSSOP, 48-Leads, Body 12.5x6.1mm, Pitch 0.5mm, IPC High Density)
footprint DGG48_M (TSSOP, 48-Leads, Body 12.5x6.1mm, Pitch 0.5mm, IPC Low Density)
pins: 1 D17 (out), 2 D18 (out), 3 GND (power), 4 D19 (out), 5 D20 (out), 6 NC, 7 LVDSGND (power), 8 A0M (in), 9 A0P (in), 10 A1M (in), 11 A1P (in), 12 LVDSVCC (power), 13 LVDSGND (power), 14 A2M (in), 15 A2P (in), 16 CLKINM (in), 17 CLKINP (in), 18 LVDSGND (power), 19 PLLGND (power), 20 PLLVCC (power), 21 PLLGND (power), 22 ~{SHTDN} (in), 23 CLKOUT (out), 24 D0 (out), 25 GND (power), 26 D1 (out), 27 D2 (out), 28 VCC (power), 29 D3 (out), 30 D4 (out), 31 D5 (out), 32 GND (power), 33 D6 (out), 34 D7 (out), 35 D8 (out), 36 VCC (power), 37 D9 (out), 38 GND (power), 39 D10 (out), 40 D11 (out), 41 D12 (out), 42 VCC (power), 43 D13 (out), 44 GND (power), 45 D14 (out), 46 D15 (out), 47 D16 (out), 48 VCC (power)

## SN65LVDS96DGGRG4
designator U?
Serdes (Serializer / Deserializer) Receiver, 3.3 V, 170.625 MB/s Data Throughput, 3 Receiver Channels, -40 to +85 degC, 48-pin TSSOP (DGG), Green (RoHS & no Sb/Br); Manufacturer: Texas Instruments; PartNumber: SN65LVDS96DGGRG4; ICC(mA): 94; Number of Parallel Outputs: 21; PLL Frequency(MHz): 20 - 68; Receiver (Vth)(mV): +/-100; Receiver tpd(ns): 8.7; SerDes: TRUE; Serial Data Receiver Channels: 3; SubFamily: LVDS Serdes (<100 MHz); Supply Voltage(s)(V): 3.3; Type of Line Circuit: LVDS; DatasheetVersion: SLLS296H; PackageVersion: revF, Dec-1997; PackageReference: DGG48; PackageDescription: 48-Pin Plastic Thin Shrink Small Outline Package 0.5 mm Pitch; Data Throughput(MB/s): 170.625; Eco-Plan: Green (RoHS & no Sb/Br); Mounting Technology: Surface Mount; Code_JEDEC: MO-153; ComponentLink1Description: Datasheet; ComponentLink1URL: http://www.ti.com/general/docs/lit/getliterature.tsp?genericPartNumber=SN65LVDS96&fileType=pdf; ComponentLink2Description: URL Link1; ComponentLink2URL: SamplesURL:http://www.ti.com/product/sn65lvds96#samples
footprint DGG48_N (TSSOP, 48-Leads, Body 12.5x6.1mm, Pitch 0.5mm, IPC Medium Density)
footprint DGG48_L (TSSOP, 48-Leads, Body 12.5x6.1mm, Pitch 0.5mm, IPC High Density)
footprint DGG48_M (TSSOP, 48-Leads, Body 12.5x6.1mm, Pitch 0.5mm, IPC Low Density)
pins: 1 D17 (out), 2 D18 (out), 3 GND (power), 4 D19 (out), 5 D20 (out), 6 NC, 7 LVDSGND (power), 8 A0M (in), 9 A0P (in), 10 A1M (in), 11 A1P (in), 12 LVDSVCC (power), 13 LVDSGND (power), 14 A2M (in), 15 A2P (in), 16 CLKINM (in), 17 CLKINP (in), 18 LVDSGND (power), 19 PLLGND (power), 20 PLLVCC (power), 21 PLLGND (power), 22 ~{SHTDN} (in), 23 CLKOUT (out), 24 D0 (out), 25 GND (power), 26 D1 (out), 27 D2 (out), 28 VCC (power), 29 D3 (out), 30 D4 (out), 31 D5 (out), 32 GND (power), 33 D6 (out), 34 D7 (out), 35 D8 (out), 36 VCC (power), 37 D9 (out), 38 GND (power), 39 D10 (out), 40 D11 (out), 41 D12 (out), 42 VCC (power), 43 D13 (out), 44 GND (power), 45 D14 (out), 46 D15 (out), 47 D16 (out), 48 VCC (power)

## SN75LVDT1422PAG
designator U?
Full Duplex Serializer / De-Serializer, 3.3 V, 175 MB/s Data Throughput, 2 Receiver Channels, -10 to +70 degC, 64-pin TQFP (PAG), Green (RoHS & no Sb/Br); Manufacturer: Texas Instruments; PartNumber: SN75LVDT1422PAG; Data Throughput(MB/s): 175; Driver tpd(ns): 3.95; ICC(mA): 49; Number of Parallel Inputs: 15; PLL Frequency(MHz): 10 - 100; Receiver (Vth)(mV): 100; Receiver tpd(ns): 9; SerDes: TRUE; Serial Data Receiver Channels: 2; SubFamily: LVDS Serdes (<100 MHz); Supply Voltage(s)(V): 3.3; Type of Line Circuit: SerDes; DatasheetVersion: SLLS653; PackageVersion: Dec-1996; PackageReference: PAG64; PackageDescription: 64-Pin Thin Quad Flat Pack 0.5 mm Pitch; Eco-Plan: Green (RoHS & no Sb/Br); Number of Parallel Outputs: 15; Serial Data Transmitter Channels: 2; Mounting Technology: Surface Mount; Code_JEDEC: MS-026; ComponentLink1Description: Datasheet; ComponentLink1URL: http://www.ti.com/general/docs/lit/getliterature.tsp?genericPartNumber=SN75LVDT1422&fileType=pdf; ComponentLink2Description: URL Link1; ComponentLink2URL: SamplesURL:http://www.ti.com/product/sn75lvdt1422#samples
footprint PAG64_N (Thin QFP, 64-Leads, Body 10x10mm, Pitch 0.5mm, IPC Medium Density)
footprint PAG64_L (Thin QFP, 64-Leads, Body 10x10mm, Pitch 0.5mm, IPC High Density)
footprint PAG64_M (Thin QFP, 64-Leads, Body 10x10mm, Pitch 0.5mm, IPC Low Density)
part A pins: 17 CLK IN (in) "CMOS/LVTTL Clock input", 19 TA0 (in) "Single-ended data inputs", 20 TA1 (in) "Single-ended data inputs", 21 TA2 (in) "Single-ended data inputs", 23 TA3 (in) "Single-ended data inputs", 24 TA4 (in) "Single-ended data inputs", 25 TA5 (in) "Single-ended data inputs", 26 TA6 (in) "Single-ended data inputs", 28 TB0 (in) "Single-ended data inputs", 29 TB1 (in) "Single-ended data inputs", 30 TB2 (in) "Single-ended data inputs", 31 TB3 (in) "Single-ended data inputs", 33 TB4 (in) "Single-ended data inputs", 34 TB5 (in) "Single-ended data inputs", 35 TB6 (in) "Single-ended data inputs", 37 R/F (in) "Input clock triggering edge select. High: Rising edge Low: Falling edge", 41 TA+ (hiz) "LVDS Data outputs", 42 TA- (hiz) "LVDS Data outputs", 43 TCLK+ (hiz) "LVDS Clock outputs", 44 TCLK- (hiz) "LVDS Clock outputs", 45 TB+ (hiz) "LVDS Data outputs", 46 TB- (hiz) "LVDS Data outputs", 48 TX ENABLE (in) "Transmitter enable:When asserted (low input), the driver outputs are high-impedance."
part B pins: 2 RA3 (out) "Single-ended data outputs", 3 RA4 (out) "Single-ended data outputs", 4 RA5 (out) "Single-ended data outputs", 5 RA6 (out) "Single-ended data outputs", 8 RB0 (out) "Single-ended data outputs", 9 RB1 (out) "Single-ended data outputs", 10 RB2 (out) "Single-ended data outputs", 11 RB3 (out) "Single-ended data outputs", 13 RB4 (out) "Single-ended data outputs", 14 RB5 (out) "Single-ended data outputs", 15 RB6 (out) "Single-ended data outputs", 52 RB- (in) "LVDS Data inputs", 53 RB+ (in) "LVDS Data inputs", 54 RCLK- (in) "LVDS Clock inputs", 55 RCLK+ (in) "LVDS Clock inputs", 56 RA- (in) "LVDS Data inputs", 57 RA+ (in) "LVDS Data inputs", 59 RX ENABLE (in) "Receiver enable: When asserted (low input), the receiver outputs go to a known low state.", 61 CLK OUT (out) "LVTTL Clock output", 62 RA0 (out) "Single-ended data outputs", 63 RA1 (out) "Single-ended data outputs", 64 RA2 (out) "Single-ended data outputs"
part C pins: 1 RX VCC (power) "Power supply pins for RX TTL outputs", 6 RX GND (power) "Ground pins for RX TTL outputs", 7 RX VCC (power) "Power supply pins for RX TTL outputs", 12 RX VCC (power) "Power supply pins for RX TTL outputs", 16 RX GND (power) "Ground pins for RX TTL outputs", 18 TX GND (power) "Ground pins for TX TTL inputs", 22 TX VCC (power) "Power supply pins for TX TTL inputs", 27 TX VCC (power) "Power supply pins for TX TTL inputs", 32 TX VCC (power) "Power supply pins for TX TTL inputs", 36 TX GND (power) "Ground pins for TX TTL inputs", 38 TX PLL VCC (power) "Power supply pin for PLL TX circuitry", 39 TX PLL GND (power) "Ground pin for PLL TX circuitry", 40 TX LVDS GND (power) "Ground pin for TX LVDS outputs", 47 TX LVDS VCC (power) "Power supply pin for TX LVDS outputs", 49 RX PLL VCC (power) "Power supply pin for PLL RX circuitry", 50 RX PLL GND (power) "Ground pin for PLL RX circuitry", 51 RX LVDS GND (power) "Ground pin for RX LVDS inputs", 58 RX LVDS VCC (power) "Power supply pin for RX LVDS inputs", 60 RX GND (power) "Ground pins for RX TTL outputs"

## SN75LVDT1422PAGG4
designator U?
Full Duplex Serializer / De-Serializer, 3.3 V, 175 MB/s Data Throughput, 2 Receiver Channels, -10 to +70 degC, 64-pin TQFP (PAG), Green (RoHS & no Sb/Br); Manufacturer: Texas Instruments; PartNumber: SN75LVDT1422PAGG4; Data Throughput(MB/s): 175; Driver tpd(ns): 3.95; ICC(mA): 49; Number of Parallel Inputs: 15; PLL Frequency(MHz): 10 - 100; Receiver (Vth)(mV): 100; Receiver tpd(ns): 9; SerDes: TRUE; Serial Data Receiver Channels: 2; SubFamily: LVDS Serdes (<100 MHz); Supply Voltage(s)(V): 3.3; Type of Line Circuit: SerDes; DatasheetVersion: SLLS653; PackageVersion: Dec-1996; PackageReference: PAG64; PackageDescription: 64-Pin Thin Quad Flat Pack 0.5 mm Pitch; Eco-Plan: Green (RoHS & no Sb/Br); Number of Parallel Outputs: 15; Serial Data Transmitter Channels: 2; Mounting Technology: Surface Mount; Code_JEDEC: MS-026; ComponentLink1Description: Datasheet; ComponentLink1URL: http://www.ti.com/general/docs/lit/getliterature.tsp?genericPartNumber=SN75LVDT1422&fileType=pdf; ComponentLink2Description: URL Link1; ComponentLink2URL: SamplesURL:http://www.ti.com/product/sn75lvdt1422#samples
footprint PAG64_N (Thin QFP, 64-Leads, Body 10x10mm, Pitch 0.5mm, IPC Medium Density)
footprint PAG64_L (Thin QFP, 64-Leads, Body 10x10mm, Pitch 0.5mm, IPC High Density)
footprint PAG64_M (Thin QFP, 64-Leads, Body 10x10mm, Pitch 0.5mm, IPC Low Density)
part A pins: 17 CLK IN (in) "CMOS/LVTTL Clock input", 19 TA0 (in) "Single-ended data inputs", 20 TA1 (in) "Single-ended data inputs", 21 TA2 (in) "Single-ended data inputs", 23 TA3 (in) "Single-ended data inputs", 24 TA4 (in) "Single-ended data inputs", 25 TA5 (in) "Single-ended data inputs", 26 TA6 (in) "Single-ended data inputs", 28 TB0 (in) "Single-ended data inputs", 29 TB1 (in) "Single-ended data inputs", 30 TB2 (in) "Single-ended data inputs", 31 TB3 (in) "Single-ended data inputs", 33 TB4 (in) "Single-ended data inputs", 34 TB5 (in) "Single-ended data inputs", 35 TB6 (in) "Single-ended data inputs", 37 R/F (in) "Input clock triggering edge select. High: Rising edge Low: Falling edge", 41 TA+ (hiz) "LVDS Data outputs", 42 TA- (hiz) "LVDS Data outputs", 43 TCLK+ (hiz) "LVDS Clock outputs", 44 TCLK- (hiz) "LVDS Clock outputs", 45 TB+ (hiz) "LVDS Data outputs", 46 TB- (hiz) "LVDS Data outputs", 48 TX ENABLE (in) "Transmitter enable:When asserted (low input), the driver outputs are high-impedance."
part B pins: 2 RA3 (out) "Single-ended data outputs", 3 RA4 (out) "Single-ended data outputs", 4 RA5 (out) "Single-ended data outputs", 5 RA6 (out) "Single-ended data outputs", 8 RB0 (out) "Single-ended data outputs", 9 RB1 (out) "Single-ended data outputs", 10 RB2 (out) "Single-ended data outputs", 11 RB3 (out) "Single-ended data outputs", 13 RB4 (out) "Single-ended data outputs", 14 RB5 (out) "Single-ended data outputs", 15 RB6 (out) "Single-ended data outputs", 52 RB- (in) "LVDS Data inputs", 53 RB+ (in) "LVDS Data inputs", 54 RCLK- (in) "LVDS Clock inputs", 55 RCLK+ (in) "LVDS Clock inputs", 56 RA- (in) "LVDS Data inputs", 57 RA+ (in) "LVDS Data inputs", 59 RX ENABLE (in) "Receiver enable: When asserted (low input), the receiver outputs go to a known low state.", 61 CLK OUT (out) "LVTTL Clock output", 62 RA0 (out) "Single-ended data outputs", 63 RA1 (out) "Single-ended data outputs", 64 RA2 (out) "Single-ended data outputs"
part C pins: 1 RX VCC (power) "Power supply pins for RX TTL outputs", 6 RX GND (power) "Ground pins for RX TTL outputs", 7 RX VCC (power) "Power supply pins for RX TTL outputs", 12 RX VCC (power) "Power supply pins for RX TTL outputs", 16 RX GND (power) "Ground pins for RX TTL outputs", 18 TX GND (power) "Ground pins for TX TTL inputs", 22 TX VCC (power) "Power supply pins for TX TTL inputs", 27 TX VCC (power) "Power supply pins for TX TTL inputs", 32 TX VCC (power) "Power supply pins for TX TTL inputs", 36 TX GND (power) "Ground pins for TX TTL inputs", 38 TX PLL VCC (power) "Power supply pin for PLL TX circuitry", 39 TX PLL GND (power) "Ground pin for PLL TX circuitry", 40 TX LVDS GND (power) "Ground pin for TX LVDS outputs", 47 TX LVDS VCC (power) "Power supply pin for TX LVDS outputs", 49 RX PLL VCC (power) "Power supply pin for PLL RX circuitry", 50 RX PLL GND (power) "Ground pin for PLL RX circuitry", 51 RX LVDS GND (power) "Ground pin for RX LVDS inputs", 58 RX LVDS VCC (power) "Power supply pin for RX LVDS inputs", 60 RX GND (power) "Ground pins for RX TTL outputs"

## SN75LVDT1422PAGR
designator U?
Full Duplex Serializer / De-Serializer, 3.3 V, 175 MB/s Data Throughput, 2 Receiver Channels, -10 to +70 degC, 64-pin TQFP (PAG), Green (RoHS & no Sb/Br); Manufacturer: Texas Instruments; PartNumber: SN75LVDT1422PAGR; Data Throughput(MB/s): 175; Driver tpd(ns): 3.95; ICC(mA): 49; Number of Parallel Inputs: 15; PLL Frequency(MHz): 10 - 100; Receiver (Vth)(mV): 100; Receiver tpd(ns): 9; SerDes: TRUE; Serial Data Receiver Channels: 2; SubFamily: LVDS Serdes (<100 MHz); Supply Voltage(s)(V): 3.3; Type of Line Circuit: SerDes; DatasheetVersion: SLLS653; PackageVersion: Dec-1996; PackageReference: PAG64; PackageDescription: 64-Pin Thin Quad Flat Pack 0.5 mm Pitch; Eco-Plan: Green (RoHS & no Sb/Br); Number of Parallel Outputs: 15; Serial Data Transmitter Channels: 2; Mounting Technology: Surface Mount; Code_JEDEC: MS-026; ComponentLink1Description: Datasheet; ComponentLink1URL: http://www.ti.com/general/docs/lit/getliterature.tsp?genericPartNumber=SN75LVDT1422&fileType=pdf; ComponentLink2Description: URL Link1; ComponentLink2URL: SamplesURL:http://www.ti.com/product/sn75lvdt1422#samples
footprint PAG64_N (Thin QFP, 64-Leads, Body 10x10mm, Pitch 0.5mm, IPC Medium Density)
footprint PAG64_L (Thin QFP, 64-Leads, Body 10x10mm, Pitch 0.5mm, IPC High Density)
footprint PAG64_M (Thin QFP, 64-Leads, Body 10x10mm, Pitch 0.5mm, IPC Low Density)
part A pins: 17 CLK IN (in) "CMOS/LVTTL Clock input", 19 TA0 (in) "Single-ended data inputs", 20 TA1 (in) "Single-ended data inputs", 21 TA2 (in) "Single-ended data inputs", 23 TA3 (in) "Single-ended data inputs", 24 TA4 (in) "Single-ended data inputs", 25 TA5 (in) "Single-ended data inputs", 26 TA6 (in) "Single-ended data inputs", 28 TB0 (in) "Single-ended data inputs", 29 TB1 (in) "Single-ended data inputs", 30 TB2 (in) "Single-ended data inputs", 31 TB3 (in) "Single-ended data inputs", 33 TB4 (in) "Single-ended data inputs", 34 TB5 (in) "Single-ended data inputs", 35 TB6 (in) "Single-ended data inputs", 37 R/F (in) "Input clock triggering edge select. High: Rising edge Low: Falling edge", 41 TA+ (hiz) "LVDS Data outputs", 42 TA- (hiz) "LVDS Data outputs", 43 TCLK+ (hiz) "LVDS Clock outputs", 44 TCLK- (hiz) "LVDS Clock outputs", 45 TB+ (hiz) "LVDS Data outputs", 46 TB- (hiz) "LVDS Data outputs", 48 TX ENABLE (in) "Transmitter enable:When asserted (low input), the driver outputs are high-impedance."
part B pins: 2 RA3 (out) "Single-ended data outputs", 3 RA4 (out) "Single-ended data outputs", 4 RA5 (out) "Single-ended data outputs", 5 RA6 (out) "Single-ended data outputs", 8 RB0 (out) "Single-ended data outputs", 9 RB1 (out) "Single-ended data outputs", 10 RB2 (out) "Single-ended data outputs", 11 RB3 (out) "Single-ended data outputs", 13 RB4 (out) "Single-ended data outputs", 14 RB5 (out) "Single-ended data outputs", 15 RB6 (out) "Single-ended data outputs", 52 RB- (in) "LVDS Data inputs", 53 RB+ (in) "LVDS Data inputs", 54 RCLK- (in) "LVDS Clock inputs", 55 RCLK+ (in) "LVDS Clock inputs", 56 RA- (in) "LVDS Data inputs", 57 RA+ (in) "LVDS Data inputs", 59 RX ENABLE (in) "Receiver enable: When asserted (low input), the receiver outputs go to a known low state.", 61 CLK OUT (out) "LVTTL Clock output", 62 RA0 (out) "Single-ended data outputs", 63 RA1 (out) "Single-ended data outputs", 64 RA2 (out) "Single-ended data outputs"
part C pins: 1 RX VCC (power) "Power supply pins for RX TTL outputs", 6 RX GND (power) "Ground pins for RX TTL outputs", 7 RX VCC (power) "Power supply pins for RX TTL outputs", 12 RX VCC (power) "Power supply pins for RX TTL outputs", 16 RX GND (power) "Ground pins for RX TTL outputs", 18 TX GND (power) "Ground pins for TX TTL inputs", 22 TX VCC (power) "Power supply pins for TX TTL inputs", 27 TX VCC (power) "Power supply pins for TX TTL inputs", 32 TX VCC (power) "Power supply pins for TX TTL inputs", 36 TX GND (power) "Ground pins for TX TTL inputs", 38 TX PLL VCC (power) "Power supply pin for PLL TX circuitry", 39 TX PLL GND (power) "Ground pin for PLL TX circuitry", 40 TX LVDS GND (power) "Ground pin for TX LVDS outputs", 47 TX LVDS VCC (power) "Power supply pin for TX LVDS outputs", 49 RX PLL VCC (power) "Power supply pin for PLL RX circuitry", 50 RX PLL GND (power) "Ground pin for PLL RX circuitry", 51 RX LVDS GND (power) "Ground pin for RX LVDS inputs", 58 RX LVDS VCC (power) "Power supply pin for RX LVDS inputs", 60 RX GND (power) "Ground pins for RX TTL outputs"